# Altium footprint library PCB - LEADLESS - QFN40P260X180X55-16N.PCBLIB: 1 footprints
Each footprint in its own frame and in the unit in brackets; x right, y up, seen from the top. Pads: shape width x height; smd on the part's side, far side on the other; paste and mask are expansions set on the pad; w line width, h text height; cw(c..) or ccw(c..) is an arc to the next point about the centre after c.
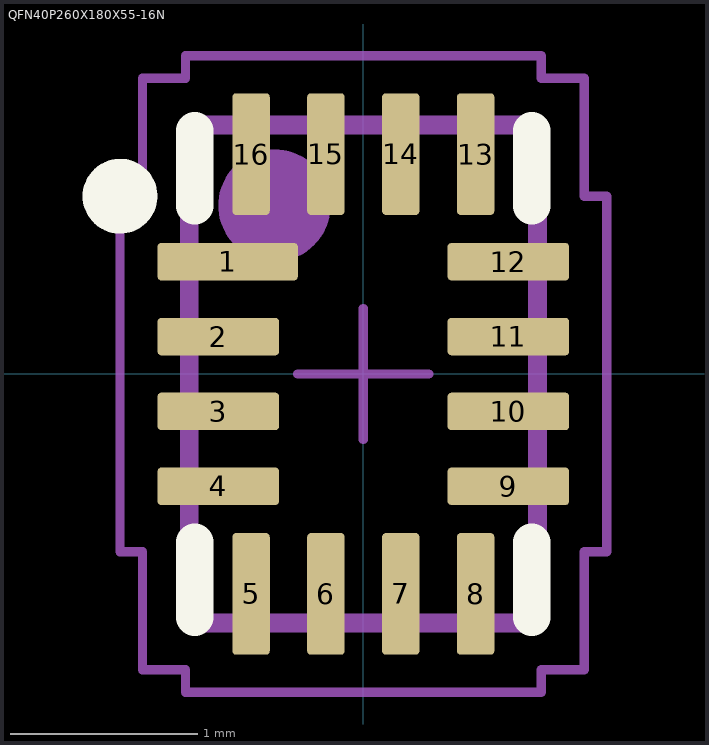
[diagram p0: the footprint, top view; thin cyan lines are the x and y axes]

## QFN40P260X180X55-16N [mm]
height 0.55
pads (16):
  rrect20% 0.75x0.2 smd: 1(-0.725,0.6)
  rrect20% 0.65x0.2 smd: 2(-0.775,0.2) 3(-0.775,-0.2) 4(-0.775,-0.6) 9(0.775,-0.6) 10(0.775,-0.2) 11(0.775,0.2) 12(0.775,0.6)
  rrect20% 0.2x0.65 smd: 5(-0.6,-1.175) 6(-0.2,-1.175) 7(0.2,-1.175) 8(0.6,-1.175) 13(0.6,1.175) 14(0.2,1.175) 15(-0.2,1.175) 16(-0.6,1.175)
Top Overlay:
  circle w0.2: c-1.3,0.95 r0.1
  lines w0.2: -0.9,-1.3 -0.9,-0.9 ; -0.9,0.9 -0.9,1.3 ; 0.9,-1.3 0.9,-0.9 ; 0.9,0.9 0.9,1.3
Top Assembly:
  circle w0.3: c-0.475,0.9 r0.15
  lines w0.1: -0.93,-1.33 -0.93,1.33 0.93,1.33 0.93,-1.33 -0.93,-1.33
Top Courtyard:
  lines w0.05: -1.3,-0.95 -1.3,0.95 -1.18,0.95 -1.18,1.58 -0.95,1.58 -0.95,1.7 0.95,1.7 0.95,1.58 1.18,1.58 1.18,0.95 1.3,0.95 1.3,-0.95 1.18,-0.95 1.18,-1.58 0.95,-1.58 0.95,-1.7 -0.95,-1.7 -0.95,-1.58 -1.18,-1.58 -1.18,-0.95 -1.3,-0.95
Top Designator:
  text ".Designator" at -0.025,1.05 h0.76
Top Component Center:
  lines w0.05: -0.35,0 0.35,0 ; 0,-0.35 0,0.35
3D body: height 0.56, standoff 0, extent -0.8,0.6 -0.2,1.2
3D body: height 0.55, standoff 0.03, extent -0.93,-1.33 0.93,1.33